# EAGLE library part ESP32-C3-WROOM-02-N4 (library components)
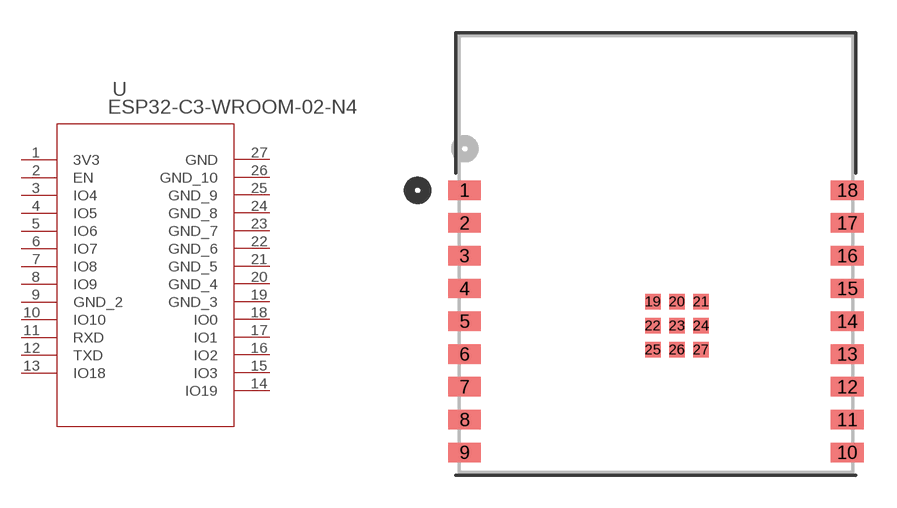
[diagram p0: symbol with the pads of IC18_ESP32-C3-WROOM-02-N4_EXP; footprint IC18_ESP32-C3-WROOM-02-N4_EXP]

Designator prefix U

## ESP32-C3-WROOM-02-N4 (COPYRIGHT: Copyright (C) 2023 Ultra Librarian. All rights reserved.; DIGIKEY_PART_NUMBER_1: 1965-ESP32-C3-WROOM-02-N4TR-ND; DIGIKEY_PART_NUMBER_2: 1965-ESP32-C3-WROOM-02-N4CT-ND; DIGIKEY_PART_NUMBER_3: 1965-ESP32-C3-WROOM-02-N4DKR-ND; MANUFACTURER_PART_NUMBER: ESP32-C3-WROOM-02-N4; MFR_NAME: Espressif Systems)  [IC18_ESP32-C3-WROOM-02-N4_EXP]
1  3V3  pas
2  EN  pas
3  IO4
4  IO5
5  IO6
6  IO7
7  IO8
8  IO9
9  GND_2  pas
10  IO10
11  RXD  pas
12  TXD  pas
13  IO18
14  IO19
15  IO3
16  IO2
17  IO1
18  IO0
19  GND_3  pas
20  GND_4  pas
21  GND_5  pas
22  GND_6  pas
23  GND_7  pas
24  GND_8  pas
25  GND_9  pas
26  GND_10  pas
27  GND  pas

## Footprint IC18_ESP32-C3-WROOM-02-N4_EXP (pad centres in mm)
smd 1.499 x 0.889: 1 -8.75,2.905; 2 -8.75,1.405; 3 -8.75,-0.095; 4 -8.75,-1.595; 5 -8.75,-3.095; 6 -8.75,-4.595; 7 -8.75,-6.095; 8 -8.75,-7.595; 9 -8.75,-9.095; 10 8.75,-9.095; 11 8.75,-7.595; 12 8.75,-6.095; 13 8.75,-4.595; 14 8.75,-3.095; 15 8.75,-1.595; 16 8.75,-0.095; 17 8.75,1.405; 18 8.75,2.905
smd 0.711 x 0.711: 19 -0.144,-2.195; 20 0.956,-2.195; 21 2.056,-2.195; 22 -0.144,-3.295; 23 0.956,-3.295; 24 2.056,-3.295; 25 -0.144,-4.395; 26 0.956,-4.395; 27 2.056,-4.395